# Altium footprint library DK2.PcbLib: 64 footprints (part 3 of 4)
Each footprint in its own frame and in the unit in brackets; x right, y up, seen from the top. Pads: shape width x height; smd on the part's side, far side on the other; paste and mask are expansions set on the pad; w line width, h text height; cw(c..) or ccw(c..) is an arc to the next point about the centre after c.
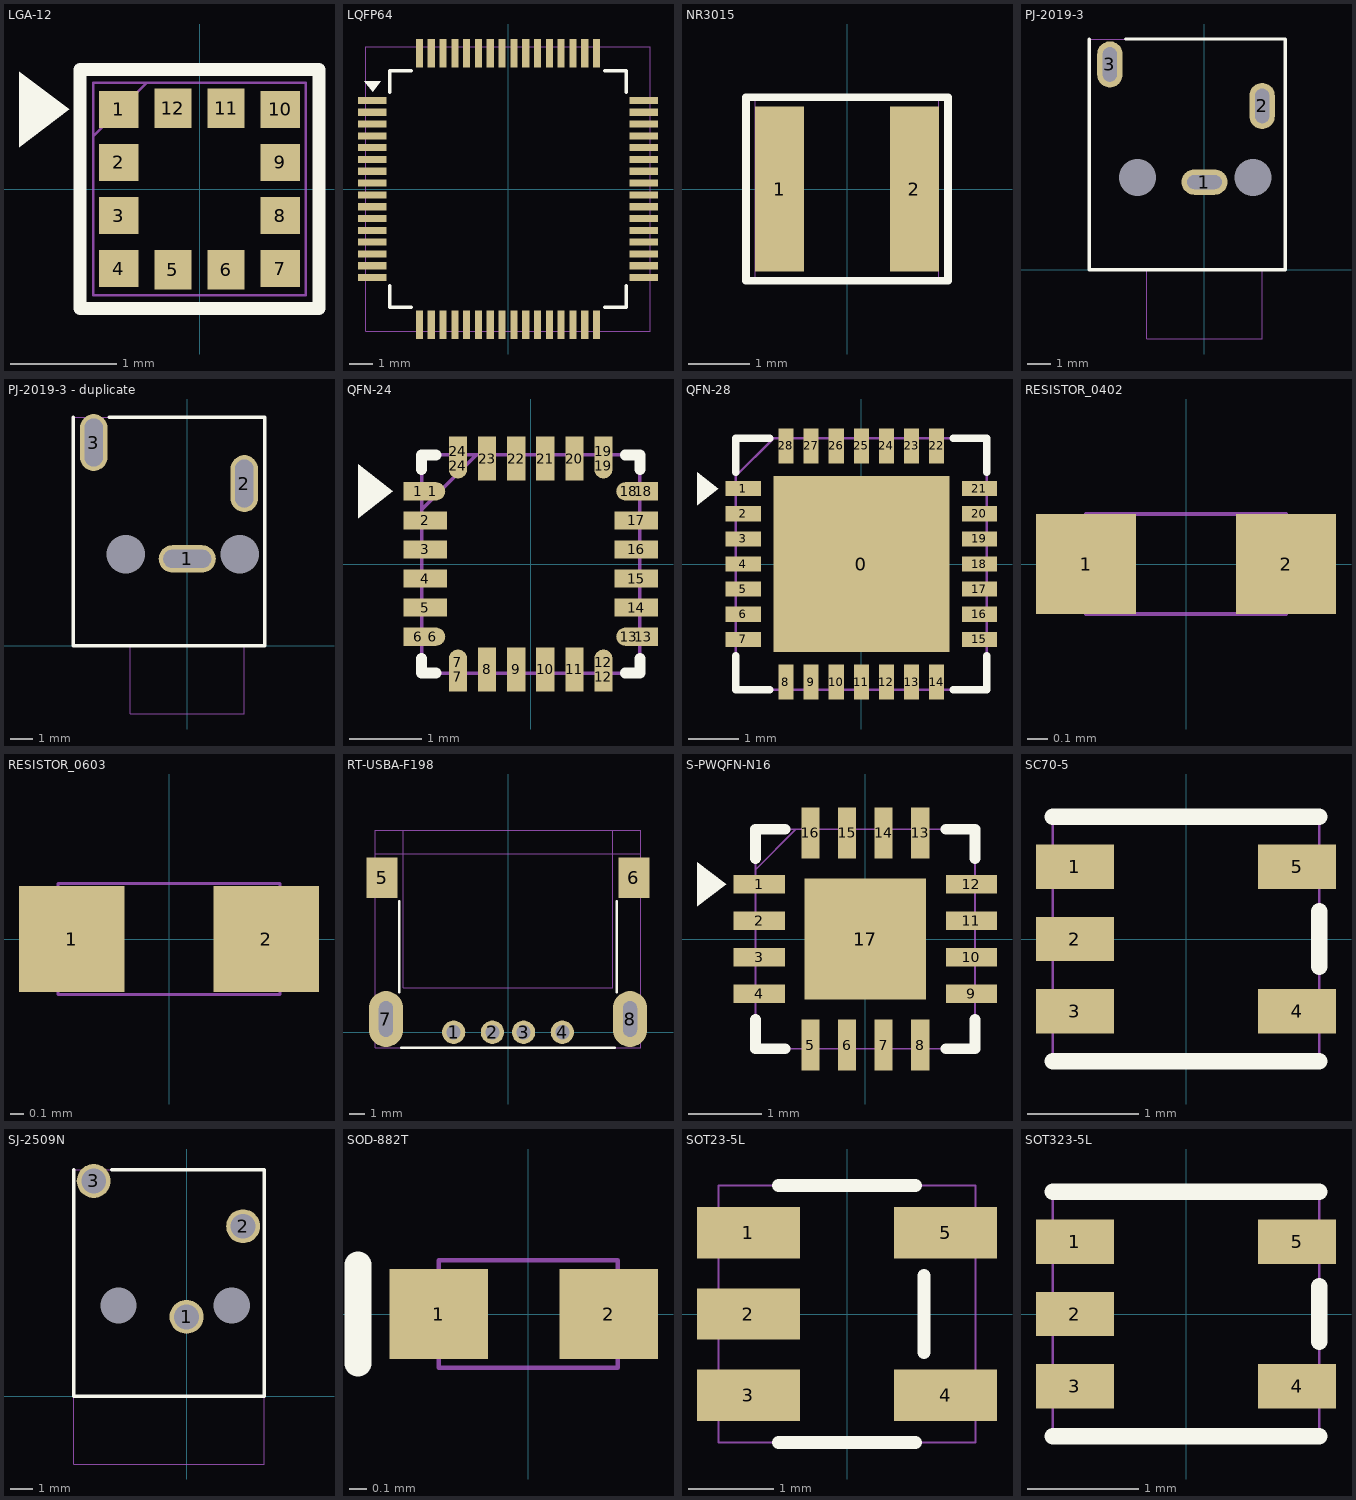
[diagram p2: the footprints below, top view; thin cyan lines are the x and y axes]

## LGA-12 [mm]
pads (12):
  rect 0.375x0.35 smd mask+0.051: 1(-0.76,0.75) 2(-0.76,0.25) 3(-0.76,-0.25) 4(-0.76,-0.75) 7(0.76,-0.75) 8(0.76,-0.25) 9(0.76,0.25) 10(0.76,0.75)
  rect 0.35x0.375 smd mask+0.051: 5(-0.25,-0.76) 6(0.25,-0.76) 11(0.25,0.76) 12(-0.25,0.76)
Top Overlay:
  region: -1.225,0.75 -1.7,1.106 -1.7,0.394
  lines w0.125: -1.125,-1.125 -1.125,1.125 1.125,1.125 1.125,-1.125 -1.125,-1.125
Mechanical 1:
  lines w0.025: -1,0.5 -0.5,1 ; -1,-1 -1,1 1,1 1,-1 -1,-1
3D body: height 1, standoff 0, extent -1,-1 1,1

## LQFP64 [mm]
pads (64):
  rect 1.2x0.3 smd mask+0.064: 1(-5.75,3.75) 2(-5.75,3.25) 3(-5.75,2.75) 4(-5.75,2.25) 5(-5.75,1.75) 6(-5.75,1.25) 7(-5.75,0.75) 8(-5.75,0.25) 9(-5.75,-0.25) 10(-5.75,-0.75) 11(-5.75,-1.25) 12(-5.75,-1.75) 13(-5.75,-2.25) 14(-5.75,-2.75) 15(-5.75,-3.25) 16(-5.75,-3.75) 33(5.75,-3.75) 34(5.75,-3.25) 35(5.75,-2.75) 36(5.75,-2.25) 37(5.75,-1.75) 38(5.75,-1.25) 39(5.75,-0.75) 40(5.75,-0.25) 41(5.75,0.25) 42(5.75,0.75) 43(5.75,1.25) 44(5.75,1.75) 45(5.75,2.25) 46(5.75,2.75) 47(5.75,3.25) 48(5.75,3.75)
  rect 0.3x1.2 smd mask+0.064: 17(-3.75,-5.75) 18(-3.25,-5.75) 19(-2.75,-5.75) 20(-2.25,-5.75) 21(-1.75,-5.75) 22(-1.25,-5.75) 23(-0.75,-5.75) 24(-0.25,-5.75) 25(0.25,-5.75) 26(0.75,-5.75) 27(1.25,-5.75) 28(1.75,-5.75) 29(2.25,-5.75) 30(2.75,-5.75) 31(3.25,-5.75) 32(3.75,-5.75) 49(3.75,5.75) 50(3.25,5.75) 51(2.75,5.75) 52(2.25,5.75) 53(1.75,5.75) 54(1.25,5.75) 55(0.75,5.75) 56(0.25,5.75) 57(-0.25,5.75) 58(-0.75,5.75) 59(-1.25,5.75) 60(-1.75,5.75) 61(-2.25,5.75) 62(-2.75,5.75) 63(-3.25,5.75) 64(-3.75,5.75)
Top Overlay:
  region: -5.735,4.115 -6.085,4.565 -5.385,4.565
  lines w0.15: -5,-4.1 -5,-5 -4.1,-5 ; -5,4.1 -5,5 -4.1,5 ; 4.1,-5 5,-5 5,-4.1 ; 4.1,5 5,5 5,4.1
Mechanical 1:
  lines w0.02: -6.025,-6.025 -6.025,6.025 6.025,6.025 6.025,-6.025 -6.025,-6.025
3D body: height 1.75, standoff 0, extent -6.014,-6.014 6.014,6.014

## NR3015 [mm]
height 1.8
pads (2):
  rect 0.8x2.7 smd mask+0.051: 1(-1.1,0) 2(1.1,0)
Top Overlay:
  lines w0.125: -1.65,-1.5 1.65,-1.5 1.65,1.5 -1.65,1.5 -1.65,-1.5
Mechanical 1:
  lines w0.02: -1.5,-1.5 1.5,-1.5 1.5,1.5 -1.5,1.5 -1.5,-1.5
3D body: height 0.7, standoff 0.5, extent -1.45,-1.35 1.45,1.35
3D body: height 0.5, standoff 0, extent -1.5,-1.5 1.5,1.5
3D body: height 1.5, standoff 0.7, extent -1.5,-1.4 1.5,1.4

## PJ-2019-3 [mm]
pads (5):
  round 0 hole 1.6 unplated paste+0 mask+0.102: 0(-2.9,4) 0(2.1,4)
  oval 2x1.1 hole 0.6 slot 1.5 at 0 deg paste+0 mask+0.051: 1(0,3.8)
  oval 1.1x2 hole 0.6 slot 1.5 at 90 deg paste+0 mask+0.051: 2(2.5,7.1) 3(-4.1,8.9)
Top Overlay:
  lines w0.15: -5,10 -5,0 3.5,0 3.5,10 -3.41,10
Mechanical 1:
  lines w0.025: -2.495,0 -2.495,-3 2.495,-3 2.495,0 ; -5,0 -5,10 3.5,10 3.5,0 -5,0
3D body: height 5, standoff -2.3, extent -5,-3 3.5,10

## PJ-2019-3 - duplicate [mm]
pads (5):
  round 0 hole 1.7 unplated paste+0 mask+0.102: 0(-2.7,4) 0(2.3,4)
  oval 2.5x1.2 hole 0.8 slot 2.1 at 0 deg paste+0 mask+0.051: 1(0,3.8)
  oval 1.2x2.5 hole 0.8 slot 2.1 at 90 deg paste+0 mask+0.051: 2(2.5,7.1) 3(-4.1,8.9)
Top Overlay:
  lines w0.15: -5,10 -5,0 3.4,0 3.4,10 -3.41,10
Mechanical 1:
  lines w0.025: -2.495,0 -2.495,-3 2.495,-3 2.495,0 ; -5,0 3.4,0 3.4,10 -5,10 -5,0
3D body: height 2.3, standoff -2.3, extent -4.4,8.15 -3.8,9.65
3D body: height 2.3, standoff -2.3, extent -0.75,3.5 0.75,4.1
3D body: height 2.3, standoff -2.3, extent 2.2,6.35 2.8,7.85
3D body: height 0, standoff -1.9, extent -3.498,3.206 -1.902,4.8
3D body: height 0, standoff -1.9, extent 1.502,3.206 3.098,4.8
3D body: height 4.98, standoff 0, extent -2.495,-3 2.495,0
3D body: height 5, standoff 0, extent -5,0 3.4,10

## QFN-24 [mm]
pads (32):
  rect 0.4x0.25 smd mask+0.05: 1(-1.55,1) 6(-1.55,-1) 13(1.55,-1) 18(1.55,1)
  rrect100% 0.35x0.25 smd mask+0.05: 1(-1.35,1) 6(-1.35,-1) 13(1.35,-1) 18(1.35,1)
  rect 0.6x0.25 smd mask+0.05: 2(-1.45,0.6) 3(-1.45,0.2) 4(-1.45,-0.2) 5(-1.45,-0.6) 14(1.45,-0.6) 15(1.45,-0.2) 16(1.45,0.2) 17(1.45,0.6)
  rect 0.25x0.4 smd mask+0.05: 7(-1,-1.55) 12(1,-1.55) 19(1,1.55) 24(-1,1.55)
  rrect100% 0.25x0.35 smd mask+0.05: 7(-1,-1.35) 12(1,-1.35) 19(1,1.35) 24(-1,1.35)
  rect 0.25x0.6 smd mask+0.05: 8(-0.6,-1.45) 9(-0.2,-1.45) 10(0.2,-1.45) 11(0.6,-1.45) 20(0.6,1.45) 21(0.2,1.45) 22(-0.2,1.45) 23(-0.6,1.45)
Top Overlay:
  region: -1.9,1 -2.375,0.631 -2.375,1.369
  lines w0.15: -1.5,-1.3 -1.5,-1.5 -1.3,-1.5 ; -1.5,1.3 -1.5,1.5 -1.3,1.5 ; 1.3,-1.5 1.5,-1.5 1.5,-1.3 ; 1.3,1.5 1.5,1.5 1.5,1.3
Mechanical 1:
  lines w0.05: -1.5,0.75 -0.75,1.5 ; -1.5,-1.5 -1.5,1.5 1.5,1.5 1.5,-1.5 -1.5,-1.5
3D body: height 0.9, standoff 0, extent -1.5,-1.5 1.5,1.5

## QFN-28 [mm]
pads (29):
  rect 3.5x3.5 smd paste-2 mask+0.05: 0(0,0)
  rect 0.7x0.3 smd mask+0.05: 1(-2.35,1.5) 2(-2.35,1) 3(-2.35,0.5) 4(-2.35,0) 5(-2.35,-0.5) 6(-2.35,-1) 7(-2.35,-1.5) 15(2.35,-1.5) 16(2.35,-1) 17(2.35,-0.5) 18(2.35,0) 19(2.35,0.5) 20(2.35,1) 21(2.35,1.5)
  rect 0.3x0.7 smd mask+0.05: 8(-1.5,-2.35) 9(-1,-2.35) 10(-0.5,-2.35) 11(0,-2.35) 12(0.5,-2.35) 13(1,-2.35) 14(1.5,-2.35) 22(1.5,2.35) 23(1,2.35) 24(0.5,2.35) 25(0,2.35) 26(-0.5,2.35) 27(-1,2.35) 28(-1.5,2.35)
Top Overlay:
  region: -2.85,1.5 -3.271,1.172 -3.271,1.828
  lines w0.15: -2.5,-1.825 -2.5,-2.5 -1.825,-2.5 ; -2.5,1.825 -2.5,2.5 -1.825,2.5 ; 1.825,-2.5 2.5,-2.5 2.5,-1.825 ; 1.825,2.5 2.5,2.5 2.5,1.825
Top Paste:
  rectangle: -1.5,0.125 -0.125,1.5
  region: -0.125,-1.5 -0.125,-0.125 -1.5,-0.125 -1.5,-1.5
  region: 1.5,-0.125 0.125,-0.125 0.125,-1.5 1.5,-1.5
  region: 0.125,1.5 0.125,0.125 1.5,0.125 1.5,1.5
Mechanical 1:
  lines w0.05: -2.5,1.75 -1.75,2.5 ; -2.5,-2.5 2.5,-2.5 2.5,2.5 -2.5,2.5 -2.5,-2.5
3D body: height 0.75, standoff 0, extent -2.5,-2.5 2.5,2.5

## RESISTOR_0402 [mm]
pads (2):
  rect 0.5x0.5 smd mask+0.051: 1(-0.5,0) 2(0.5,0)
Mechanical 1:
  lines w0.02: -0.5,-0.25 -0.5,0.25 0.5,0.25 0.5,-0.25 -0.5,-0.25
3D body: height 0.38, standoff 0, extent -0.5,-0.25 0.5,0.25

## RESISTOR_0603 [mil]
pads (2):
  rect 30x30 smd mask+2: 1(-27.56,0) 2(27.56,0)
Mechanical 1:
  lines w0.79: -31.5,-15.75 31.5,-15.75 31.5,15.75 -31.5,15.75 -31.5,-15.75
3D body: height 19.68, standoff 0, extent -31.5,-15.75 31.49,15.74

## RT-USBA-F198 [mm]
pads (8):
  round 1.5 hole 0.92 mask+0.051: 1(-3.5,0) 2(-1,0) 3(1,0) 4(3.5,0)
  rect 2x2.6 smd mask+0.051: 5(-8.1,9.95) 6(8.1,9.95)
  oval 2.2x3.6 hole 0.9 slot 2.3 at 90 deg mask+0.051: 7(-7.85,0.85) 8(7.85,0.85)
Top Overlay:
  lines w0.15: -7,2.575 -7,8.425 ; -6.875,-1 6.875,-1 ; 7,2.575 7,8.425
Mechanical 1:
  lines w0.05: -8.55,11.5 8.55,11.5 ; -6.75,13 -6.75,2.85 6.75,2.85 6.75,13 ; -8.55,-1 8.55,-1 8.55,13 -8.55,13 -8.55,-1
3D body: height 5, standoff -1.68, extent -8.6,-1 8.6,13

## S-PWQFN-N16 [mm]
pads (17):
  rect 0.7x0.25 smd mask+0.051: 1(-1.45,0.75) 2(-1.45,0.25) 3(-1.45,-0.25) 4(-1.45,-0.75) 9(1.45,-0.75) 10(1.45,-0.25) 11(1.45,0.25) 12(1.45,0.75)
  rect 0.25x0.7 smd mask+0.051: 5(-0.75,-1.45) 6(-0.25,-1.45) 7(0.25,-1.45) 8(0.75,-1.45) 13(0.75,1.45) 14(0.25,1.45) 15(-0.25,1.45) 16(-0.75,1.45)
  rect 1.66x1.66 smd paste-0.085 mask+0.051: 17(0,0)
Top Overlay:
  region: -1.9,0.75 -2.3,1.05 -2.3,0.45
  lines w0.15: -1.5,-1.1 -1.5,-1.5 -1.1,-1.5 ; -1.5,1.1 -1.5,1.5 -1.1,1.5 ; 1.1,-1.5 1.5,-1.5 1.5,-1.1 ; 1.1,1.5 1.5,1.5 1.5,1.1
Mechanical 1:
  lines w0.025: -1.5,0.95 -0.95,1.5 ; -1.5,-1.5 1.5,-1.5 1.5,1.5 -1.5,1.5 -1.5,-1.5
3D body: height 0.8, standoff 0, extent -1.5,-1.5 1.5,1.5

## SC70-5 [mm]
pads (5):
  rect 0.7x0.4 smd mask+0.064: 1(-1,0.65) 2(-1,0) 3(-1,-0.65) 4(1,-0.65) 5(1,0.65)
Top Overlay:
  lines w0.15: -1.2,-1.1 1.2,-1.1 ; -1.2,1.1 1.2,1.1 ; 1.2,-0.25 1.2,0.25
Mechanical 1:
  lines w0.025: -1.2,-1.1 1.2,-1.1 1.2,1.1 -1.2,1.1 -1.2,-1.1
3D body: height 1.1, standoff 0, extent -1.2,-1.1 1.2,1.1

## SJ-2509N [mm]
pads (5):
  round 0 hole 1.6 unplated paste+0 mask+0.102: 0(-3,4) 0(2,4)
  round 1.5 hole 1.1 paste+0 mask+0.051: 1(0,3.5) 2(2.5,7.5) 3(-4.1,9.5)
Top Overlay:
  lines w0.15: -4.975,10 -4.975,0 3.425,0 3.425,10 -3.3,10
Mechanical 1:
  lines w0.025: -4.975,-3 -4.975,10 3.425,10 3.425,-3 -4.975,-3
3D body: height 5, standoff -2.2, extent -4.975,-3 3.425,10

## SOD-882T [mm]
pads (2):
  rect 0.55x0.5 smd paste-0.05 mask+0.051: 1(-0.5,0) 2(0.45,0)
Top Overlay:
  lines w0.15: -0.95,-0.275 -0.95,0.275
Mechanical 1:
  lines w0.025: -0.5,-0.3 -0.5,0.3 0.5,0.3 0.5,-0.3 -0.5,-0.3
3D body: height 0.4, standoff 0, extent -0.5,-0.3 0.5,0.3

## SOT23-5L [mm]
pads (5):
  rect 1.2x0.6 smd mask+0.051: 1(-1.15,0.95) 2(-1.15,0) 3(-1.15,-0.95) 4(1.15,-0.95) 5(1.15,0.95)
Top Overlay:
  lines w0.15: -0.8,-1.5 0.8,-1.5 ; -0.8,1.5 0.8,1.5 ; 0.9,-0.45 0.9,0.45
Mechanical 1:
  lines w0.025: -1.5,-1.5 1.5,-1.5 1.5,1.5 -1.5,1.5 -1.5,-1.5
3D body: height 1.3, standoff 0, extent -1.5,-1.5 1.5,1.5

## SOT323-5L [mm]
pads (5):
  rect 0.7x0.4 smd mask+0.064: 1(-1,0.65) 2(-1,0) 3(-1,-0.65) 4(1,-0.65) 5(1,0.65)
Top Overlay:
  lines w0.15: -1.2,-1.1 1.2,-1.1 ; -1.2,1.1 1.2,1.1 ; 1.2,-0.25 1.2,0.25
Mechanical 1:
  lines w0.025: -1.2,-1.1 -1.2,1.1 1.2,1.1 1.2,-1.1 -1.2,-1.1
3D body: height 1.1, standoff 0, extent -1.2,-1.1 1.2,1.1